# Altium integrated library CREE LEDS.IntLib: 1 symbol
Pins are listed as number, name and electrical type; pins without a type are passive.

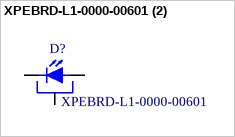
[diagram p0: symbol XPEBRD-L1-0000-00601 (2)]

## XPEBRD-L1-0000-00601 (2)
designator D?, comment XPEBRD-L1-0000-00601
XLAMP XP-E2 COLOR LEDS; Color: Red; Wavelength: 625nm (620nm ~ 630nm); Current - Test: 350mA; Voltage - Forward (Vf) (Typ): 2.2V; Current - Max: 1A; Flux @ Current/Temperature - Test: 65 lm (62 lm ~ 67 lm); Temperature - Test: 25°C; Viewing Angle: 130°; Lumens/Watt @ Current - Test: 84 lm/W; Thermal Resistance of Package: 5°C/W; Packaging: Cut Tape (CT); Mounting Type: Surface Mount; Package / Case: 2-SMD, No Lead; ComponentLink1URL: http://www.cree.com/~/media/Files/Cree/LED%20Components%20and%20Modules/XLamp/Data%20and%20Binning/XLampXPE2.pdf; ComponentLink1Description: http://www.cree.com/~/media/Files/Cree/LED%20Components%20and%20Modules/XLamp/Data%20and%20Binning/XLampXPE2.pdf; Supplier 1: Digi-Key; Supplier Part Number 1: XPEBRD-L1-0000-00601CT-ND; Value: XPEBRD-L1-0000-00601
footprint XPEBRD-L1-0000-00601
footprint XMLBWT-00-0000-0000U20E1 (LED Lighting XLamp® XM-L2 White, Cool 6500K 2.85V 700mA 125° 2-SMD, No Lead, Exposed Pad)
pins: A, C, TP